# Altium integrated library TPS73233DBVT.IntLib: 1 symbol
Pins are listed as number, name and electrical type; pins without a type are passive.

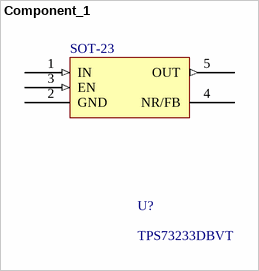
[diagram p0: symbol Component_1]

## Component_1
designator U?, comment TPS73233DBVT  Package type: SOT-23
1.8 voltage regulator
footprint SOT95P280X145-5N
pins: 1 IN (in) "Input power supply", 2 GND (power) "ground", 3 EN (in) "Enabler", 4 NR/FB (oe) "connecting an external capacitor to this pin bypasses NR 4 4 3 — noise generated by the internal bandgap, reducing output noise to very low levels.", 5 OUT (out) "Output of the regulator."